# Altium schematic symbol library AMS1117_3.3.SchLib: 1 symbol
Pins are listed as number, name and electrical type; pins without a type are passive.

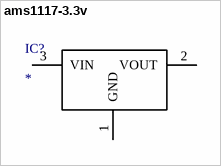
[diagram p0: symbol ams1117-3.3v]

## ams1117-3.3v
designator IC?
Integrated Circuit; Manufacturer_Name: Advanced Monolithic Systems; Manufacturer_Part_Number: ams1117-3.3v; Datasheet Link: http://www.advanced-monolithic.com/pdf/ds1117.pdf; Height: 1.8mm
footprint SOT229P700X180-4N
pins: 1 GND, 2 VOUT, 3 VIN